# EAGLE library part SMF05C (library custom-components)
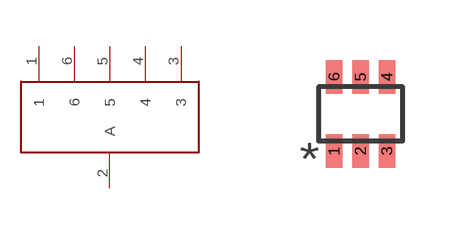
[diagram p1: symbol with the pads of SOT665; footprint SOT665]

Designator prefix -

## SMF05C  [SOT665]
1  1
2  A
3  3
4  4
5  5
6  6

## Footprint SOT665 (pad centres in mm)
smd 0.406 x 0.838: 1 -0.66,-0.927; 2 0,-0.927; 3 0.66,-0.927; 4 0.66,0.927; 5 0,0.927; 6 -0.66,0.927